# Altium schematic symbol library GCM188R71H103KA37J.SchLib: 1 symbol
Pins are listed as number, name and electrical type; pins without a type are passive.

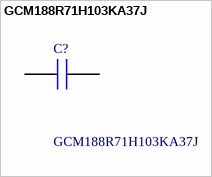
[diagram p0: symbol GCM188R71H103KA37J]

## GCM188R71H103KA37J
designator C?
Multilayer Ceramic Capacitors MLCC - SMD/SMT PLEASE SEE MURATA'S SUGGESTED ALTERNATE GCM155R71H103KA55D; Manufacturer_Name: Murata Electronics; Geometry.Height: 0.9mm; Mouser Part Number: 81-GCM188R71H103KA7J; Mouser Price/Stock: https://www.mouser.co.uk/ProductDetail/Murata-Electronics/GCM188R71H103KA37J?qs=N3Kl9KD794T3%2FxlXdF0Axg%3D%3D; Manufacturer_Part_Number: GCM188R71H103KA37J; Datasheet Link: https://search.murata.co.jp/Ceramy/image/img/A01X/G101/ENG/GCM188R71H103KA37-01C.pdf
footprint CAPC1608X90N
pins: 1, 2